# EAGLE library part MAX4080 (library WSNlib)
MAX4080 Current sense amplifier Gain 5/20/60 Voltage output
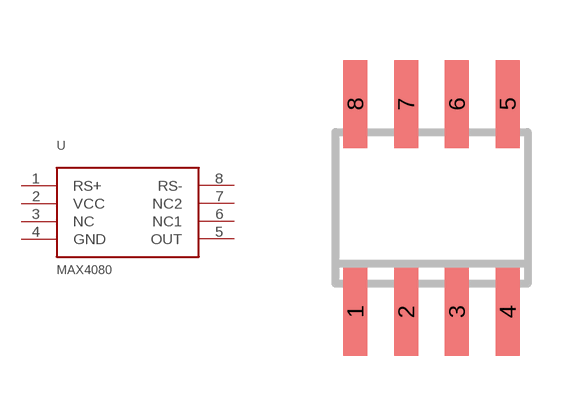
[diagram p12: symbol with the pads of SO08; footprint SO08]

Designator prefix U

## MAX4080  [SO08]
1  RS+
2  VCC
3  NC
4  GND
5  OUT
6  NC1
7  NC2
8  RS-

## Footprint SO08 (pad centres in mm)
SMALL OUTLINE INTEGRATED CIRCUIT body 3.9 mm/JEDEC MS-012AA
smd 0.6 x 2.2: 1 -1.905,-2.6; 2 -0.635,-2.6; 3 0.635,-2.6; 4 1.905,-2.6; 5 1.905,2.6; 6 0.635,2.6; 7 -0.635,2.6; 8 -1.905,2.6